# Altium footprint library STB_PcbLib.PcbLib: 6 footprints
Each footprint in its own frame and in the unit in brackets; x right, y up, seen from the top. Pads: shape width x height; smd on the part's side, far side on the other; paste and mask are expansions set on the pad; w line width, h text height; cw(c..) or ccw(c..) is an arc to the next point about the centre after c.
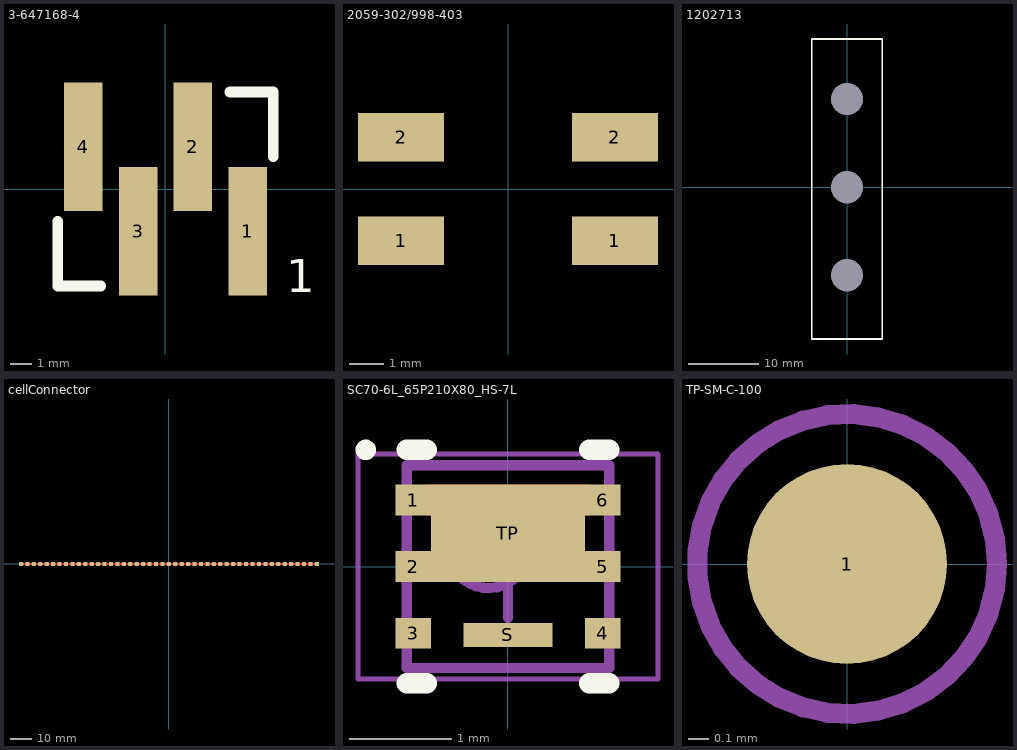
[diagram p0: the footprints below, top view; thin cyan lines are the x and y axes]

## 3-647168-4 [mm] "04P MTA100 HDR ASSY SM 30AU LF"
pads (4):
  rect 1.78x5.97 smd paste-1: 1(3.81,-1.965) 2(1.27,1.965) 3(-1.27,-1.965) 4(-3.81,1.965)
Top Overlay:
  lines w0.5: -5,-1.5 -5,-4.5 -3,-4.5 ; 3,4.5 5,4.5 5,1.5
  text "1" at 5.599,-4.789 h1.52
3D body "c-3-647168-4-k-3d.stp": height 10.67, standoff 0.01, extent -5.08,-4.271 5.08,4.314

## 2059-302/998-403 [mm] "2 pos"
pads (4):
  rect 2.5x1.4 smd paste-100: 1(-3.1,-1.5) 1(3.1,-1.5) 2(-3.1,1.5) 2(3.1,1.5)
3D body "2059-302_998-403.stp": height 2.7, standoff 0, extent -4,-2.95 3.85,2.95

## 1202713 [mm] "Rail adapters - USA 10/4,6"
pads (3):
  round 0 / inner round 1.524 / far side round 10 hole 4.6 unplated: 7(0,-12.5) 7(0,0) 7(0,12.5)
Top Overlay:
  lines w0.25: -5,15 -5,21 5,21 5,-15.5 5,-21.5 -5,-21.5 -5,15.5
Mechanical 5:
  text "TOP" at -2.13,18.607 h1.52
3D body "pxc_1202713_03_USA-10-4-6_3D.stp": height 18.98, standoff -0.02, extent -5,-21.496 5,21.104

## cellConnector [mm] "dumm for cell ceonnection"
pads (47):
  rrect50% 2x2 smd paste-100: 1(-69,0) 1(-66.065,-0.063) 1(-63.065,-0.063) 1(-60.065,-0.063) 1(-57.065,-0.063) 1(-54.065,-0.063) 1(-51.065,-0.063) 1(-48.065,-0.063) 1(-45.065,-0.063) 1(-42.065,-0.063) 1(-39.065,-0.063) 1(-36.065,-0.063) 1(-33.065,-0.063) 1(-30.065,-0.063) 1(-27.065,-0.063) 1(-24.065,-0.063) 1(-21.065,-0.063) 1(-18.065,-0.063) 1(-15.065,-0.063) 1(-12.065,-0.063) 1(-9.065,-0.063) 1(-6.065,-0.063) 1(-3.065,-0.063) 1(-0.065,-0.063) 1(2.935,-0.063) 1(5.935,-0.063) 1(8.935,-0.063) 1(11.935,-0.063) 1(14.935,-0.063) 1(17.935,-0.063) 1(20.935,-0.063) 1(23.935,-0.063) 1(26.935,-0.063) 1(29.935,-0.063) 1(32.935,-0.063) 1(35.935,-0.063) 1(38.935,-0.063) 1(42,0) 1(45,0) 1(48,0) 1(51,0) 1(54,0) 1(57,0) 1(60,0) 1(63,0) 1(66,0) 1(69,0)
Top Layer:
  lines w1: -69,0 69,0

## SC70-6L_65P210X80_HS-7L [mm] "SC70-6L, Vishay Siliconix, Body 2.07x2.07mm, Pitch 0.65mm, IPC High Density"
height 0.8
pads (8):
  rect 0.35x0.3 smd: 1(-0.925,0.65) 2(-0.925,0) 3(-0.925,-0.65) 4(0.925,-0.65) 5(0.925,0) 6(0.925,0.65)
  rect 0.87x0.235 smd: S(0,-0.667)
  rect 1.5x0.95 smd: TP(0,0.325)
Top Layer:
  rectangle: -0.8,-0.15 0.8,0.15
  rectangle: -0.795,0.5 0.8,0.8
Top Overlay:
  circle w0.1: c-1.39,1.14 r0.05
  lines w0.2: -0.99,-1.14 -0.795,-1.14 ; -0.99,1.14 -0.795,1.14 ; 0.795,-1.14 0.99,-1.14 ; 0.795,1.14 0.99,1.14
Mechanical 13:
  circle w0.1: c-0.19,0.19 r0.4
  lines w0.1: -0.99,-0.99 -0.99,0.99 0.99,0.99 0.99,-0.99 -0.99,-0.99
Mechanical 15:
  lines w0.05: -1.465,-1.1 -1.465,1.1 1.465,1.1 1.465,-1.1 -1.465,-1.1
  lines w0.1: -0.5,0 0.5,0 ; 0,-0.5 0,0.5
3D body: height 0.8, standoff 0, extent -0.99,-0.99 0.99,0.99

## TP-SM-C-100 [mm] "Test Point, Surface Mounting, Circular, Pad Diameter 1mm"
pads (1):
  round 1 smd paste-1: 1(0,0)
Mechanical 15:
  circle w0.1: c0,0 r0.75